# Altium footprint library basic.PcbLib: 38 footprints (part 2 of 3)
Each footprint in its own frame and in the unit in brackets; x right, y up, seen from the top. Pads: shape width x height; smd on the part's side, far side on the other; paste and mask are expansions set on the pad; w line width, h text height; cw(c..) or ccw(c..) is an arc to the next point about the centre after c.
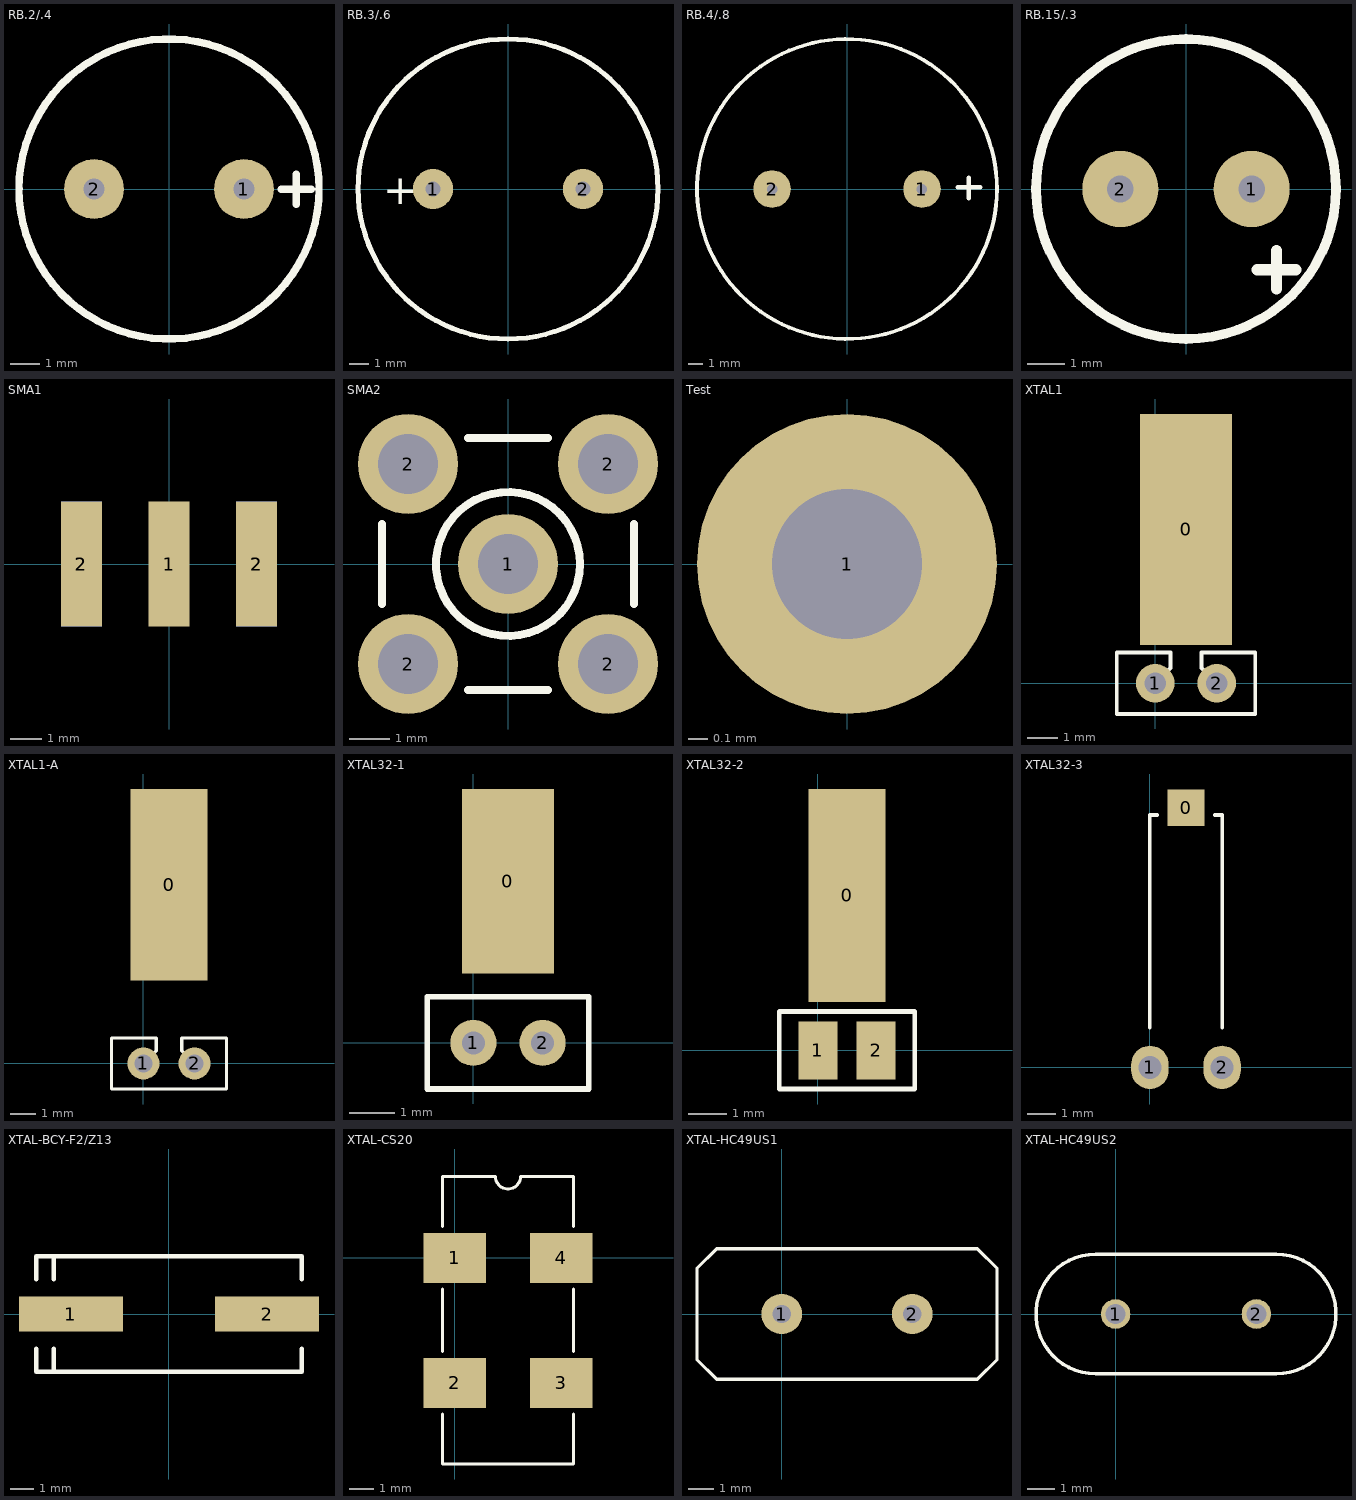
[diagram p1: the footprints below, top view; thin cyan lines are the x and y axes]

## RB.2/.4 [mil]
pads (2):
  round 80 hole 28: 1(100,0) 2(-100,0)
Top Overlay:
  circle w10: c0,0 r200
  lines w10: 150,0 190,0 ; 170,-20 170,20

## RB.3/.6 [mil]
pads (2):
  round 80 hole 30: 1(-150,0) 2(150,0)
Top Overlay:
  circle w10: c0,0 r300
  text "+" at -250,-30 h60

## RB.4/.8 [mil]
pads (2):
  round 100 hole 28: 1(200,0) 2(-200,0)
Top Overlay:
  circle w10: c0,0 r400
  lines w12: 295,5 355,5 ; 325,-25 325,30

## RB.15/.3 [mil]
pads (2):
  round 80 hole 28: 1(68.9,0) 2(-68.9,0)
Top Overlay:
  circle w10: c0,0 r157.48
  lines w12: 75,-85 115,-85 ; 95,-105 95,-65

## SMA1 [mm]
pads (5):
  rect 1.3x4 smd: 1(0,0) 2(-2.8,0) 2(2.8,0)
  rect 1.3x4 smd far side: 2(-2.8,0) 2(2.8,0)

## SMA2 [mm]
pads (5):
  round 2.5 hole 1.5: 1(0,0) 2(-2.5,-2.5) 2(-2.5,2.5) 2(2.5,-2.5) 2(2.5,2.5)
Top Overlay:
  circle w0.2: c0,0 r1.8
  lines w0.2: -3.15,-1 -3.15,1 ; -1,-3.15 1,-3.15 ; -1,3.15 1,3.15 ; 3.15,-1 3.15,1
Mechanical 1:
  circle w0.025: c0,0 r0.2
  circle w0.025: c0,0 r1.05
  circle w0.025: c0,0 r1.8

## Test [mil] "测试点"
pads (1):
  round 60 hole 30: 1(0,0)

## XTAL1 [mil]
pads (3):
  rect 120x300 smd: 0(40,200)
  round 50 hole 28: 1(0,0) 2(80,0)
Top Overlay:
  lines w5: 0,0 20,20 20,40 -50,40 -50,0 -50,-40 130,-40 130,40 60,40 60,20 80,0

## XTAL1-A [mil]
pads (3):
  rect 120x300 smd: 0(40,280)
  round 50 hole 28: 1(0,0) 2(80,0)
Top Overlay:
  lines w5: 0,0 20,20 20,40 -50,40 -50,0 -50,-40 130,-40 130,40 60,40 60,20 80,0

## XTAL32-1 [mil]
pads (3):
  rect 80x160 smd: 0(30,140)
  round 40 hole 20: 1(0,0) 2(60,0)
Top Overlay:
  lines w5: -40,-40 -40,40 100,40 100,-40 -40,-40

## XTAL32-2 [mil]
pads (3):
  rect 80x220 smd: 0(30,160)
  rect 40x60 smd: 1(0,0) 2(60,0)
Top Overlay:
  lines w5: -40,-40 -40,40 100,40 100,-40 -40,-40

## XTAL32-3 [mil]
pads (3):
  rect 52x50 smd: 0(50,360)
  oval 52x60 hole 32: 1(0,0) 2(100,0)
Top Overlay:
  lines w5: 0,55 0,350 10,350 ; 90,350 100,350 100,55

## XTAL-BCY-F2/Z13 [mm] "Quartz Crystal, SM; 2 Leads; Body 11.4 x 4.8 x 5 mm (LxWxH)"
height 5
pads (2):
  rect 4.5x1.5 smd: 1(-4.25,0) 2(4.25,0)
Top Overlay:
  lines w0.2: -5.75,-1.5 -5.75,-2.5 5.75,-2.5 5.75,-1.5 ; -5.75,1.5 -5.75,2.5 5.75,2.5 5.75,1.5 ; -5,-2.5 -5,-1.5 ; -5,1.5 -5,2.5

## XTAL-CS20 [mil]
pads (4):
  rect 100x80 smd: 1(0,0) 2(0,-200) 3(170,-200) 4(170,0)
Top Overlay:
  lines w5: -20,-250 -20,-330 190,-330 190,-250 ; -20,-150 -20,-50 ; -20,50 -20,130 65,130 ccw(c85,130) 105,130 190,130 190,50 ; 190,-150 190,-50

## XTAL-HC49US1 [mil]
pads (2):
  round 62 hole 28: 1(0,0) 2(200,0)
Top Overlay:
  lines w5: -130,-70 -100,-100 300,-100 330,-70 330,70 300,100 -100,100 -130,70 -130,-70

## XTAL-HC49US2 [mil]
pads (2):
  round 42 / inner round 68 / far side round 68 hole 28: 1(0,0) 2(200,0)
Top Overlay:
  lines w5: -28,-85.01 cw(c-28,0) -28,85.01 228,85.01 cw(c228,0) 228,-85.01 -28,-85.01